# Altium footprint library Switch_Alcoswitch_MHS133G04_eec_0.PcbLib: 1 footprints
Each footprint in its own frame and in the unit in brackets; x right, y up, seen from the top. Pads: shape width x height; smd on the part's side, far side on the other; paste and mask are expansions set on the pad; w line width, h text height; cw(c..) or ccw(c..) is an arc to the next point about the centre after c.
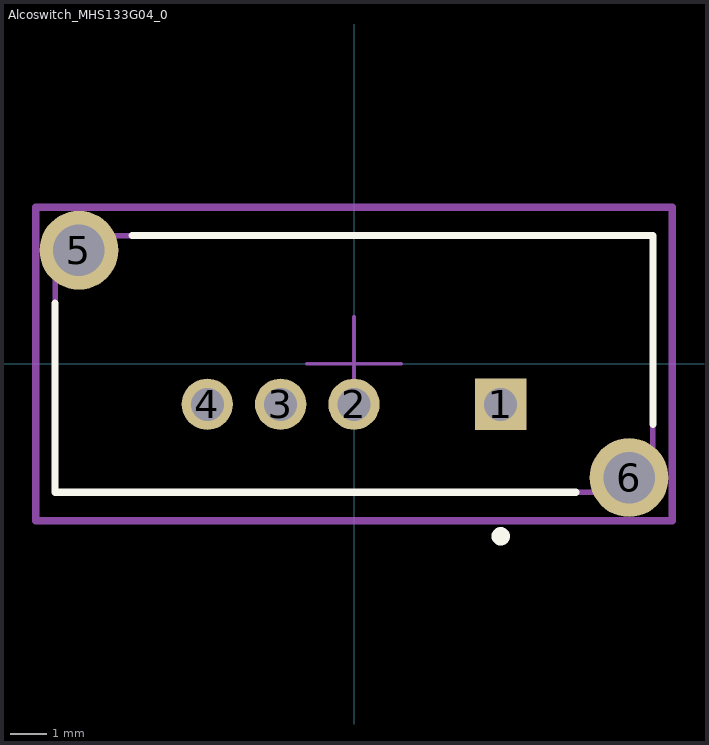
[diagram p0: the footprint, top view; thin cyan lines are the x and y axes]

## Alcoswitch_MHS133G04_0 [mm]
pads (6):
  rect 1.4x1.4 hole 0.9 paste-1000 mask+0: 1(4,-1.1)
  round 1.4 hole 0.9 paste-1000 mask+0: 2(0,-1.1) 3(-2,-1.1) 4(-4,-1.1)
  round 2.15 hole 1.4 paste-1000 mask+0: 5(-7.5,3.1) 6(7.5,-3.1)
Top Overlay:
  circle w0.25: c4,-4.7 r0.125
  lines w0.2: -8.15,1.65 -8.15,-3.5 6.05,-3.5 ; -6.05,3.5 8.15,3.5 8.15,-1.65
Mechanical 10:
  lines w0.2: -8.675,-4.275 8.675,-4.275 8.675,4.275 -8.675,4.275 -8.675,-4.275
  text ".Designator" at 0,0 h1
Mechanical 12:
  lines w0.15: -8.15,-3.5 8.15,-3.5 8.15,3.5 -8.15,3.5 -8.15,-3.5
Mechanical 15:
  lines w0.1: -1.282,0 1.282,0 ; 0,-1.282 0,1.282
  lines w0.2: -8.675,-4.275 8.675,-4.275 8.675,4.275 -8.675,4.275 -8.675,-4.275
3D body "Switch_Alcoswitch_MHS133G04_eec.STEP": height 0.25, standoff 0, extent -8.675,-4.275 8.675,4.275